# Altium schematic symbol library DC.EXT.0200.0180.Schlib: 1 symbol
Pins are listed as number, name and electrical type; pins without a type are passive.

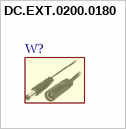
[diagram p0: symbol DC.EXT.0200.0180]

## DC.EXT.0200.0180
designator W?  (value not drawn)  (mechanical)